# Altium schematic symbol library RES,470R,1%,0.1W,0603.Schlib: 1 symbol
Pins are listed as number, name and electrical type; pins without a type are passive.

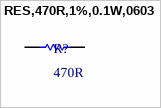
[diagram p0: symbol RES,470R,1%,0.1W,0603]

## RES,470R,1%,0.1W,0603
designator R?, comment 470R
470 ±1% 0.1W, 1/10W Chip Resistor 0603 (1608 Metric) - Thick Film
pins: 1, 2